# EAGLE library part LT8640S (library Analog Devices)
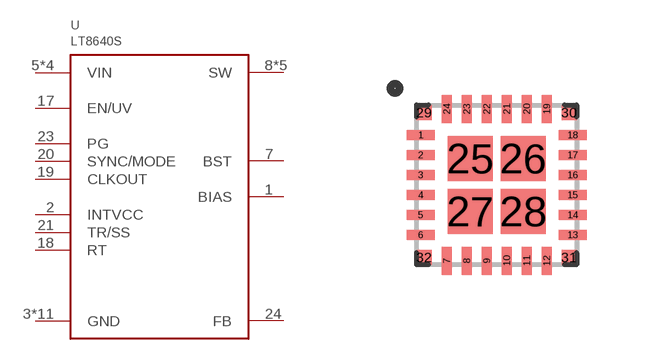
[diagram p28: symbol with the pads of QFN24_CORNER; footprint QFN24_CORNER]

Designator prefix U

## LT8640S  [QFN24_CORNER]
1  BIAS
2  INTVCC
3  GND
5  VIN
6  VIN
7  BST
8  SW
9  SW
10  SW
11  SW
12  SW
13  VIN
14  VIN
16  GND
17  EN/UV
18  RT
19  CLKOUT
20  SYNC/MODE
21  TR/SS
22  GND
23  PG
24  FB
25  GND
26  GND
27  GND
28  GND
29  GND
30  GND
31  GND
32  GND

## Footprint QFN24_CORNER (pad centres in mm)
smd 0.7 x 0.25: 1 -1.9,1.25; 2 -1.9,0.75; 3 -1.9,0.25; 4 -1.9,-0.25; 5 -1.9,-0.75; 6 -1.9,-1.25; 13 1.9,-1.25; 14 1.9,-0.75; 15 1.9,-0.25; 16 1.9,0.25; 17 1.9,0.75; 18 1.9,1.25
smd 0.25 x 0.7: 7 -1.25,-1.9; 8 -0.75,-1.9; 9 -0.25,-1.9; 10 0.25,-1.9; 11 0.75,-1.9; 12 1.25,-1.9; 19 1.25,1.9; 20 0.75,1.9; 21 0.25,1.9; 22 -0.25,1.9; 23 -0.75,1.9; 24 -1.25,1.9
smd 1.125 x 1.125: 25 -0.662,0.662; 26 0.662,0.662; 27 -0.662,-0.662; 28 0.662,-0.662
smd 0.375 x 0.375: 29 -1.812,1.812; 30 1.812,1.812; 31 1.812,-1.812; 32 -1.812,-1.812